# Altium footprint library Transistor.PcbLib: 7 footprints
Each footprint in its own frame and in the unit in brackets; x right, y up, seen from the top. Pads: shape width x height; smd on the part's side, far side on the other; paste and mask are expansions set on the pad; w line width, h text height; cw(c..) or ccw(c..) is an arc to the next point about the centre after c.
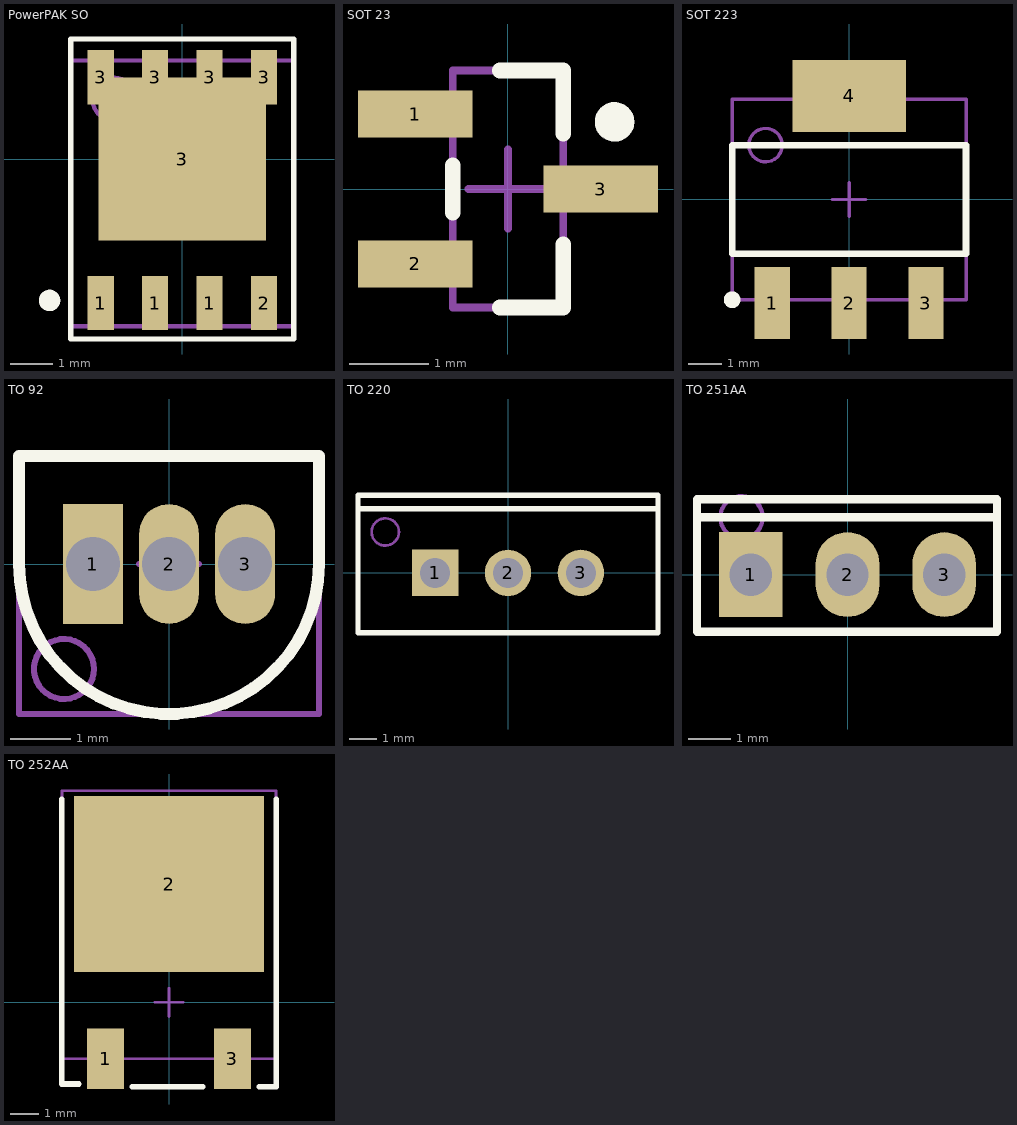
[diagram p0: the footprints below, top view; thin cyan lines are the x and y axes]

## PowerPAK SO [mm]
pads (9):
  rect 0.61x1.27 smd: 1(-1.905,-3.36) 1(-0.635,-3.36) 1(0.635,-3.36) 2(1.905,-3.36) 3(-1.905,1.905) 3(-0.635,1.905) 3(0.635,1.905) 3(1.905,1.905)
  rect 3.91x3.81 smd: 3(0,0)
Top Overlay:
  circle w0.25: c-3.1,-3.3 r0.125
  lines w0.127: -2.6,-4.2 -2.6,2.8 2.6,2.8 2.6,-4.2 -2.6,-4.2
Mechanical 13:
  circle w0.1: c-1.6,1.4 r0.5
  lines w0.1: -2.6,-3.9 2.6,-3.9 2.6,2.3 -2.6,2.3 -2.6,-3.9
Mechanical 15:
  lines w0.1: -0.5,0 0.5,0 ; 0,-0.5 0,0.5
3D body "Part1.stp": height 1.12, standoff 0, extent -2.575,-3.875 2.575,2.275

## SOT 23 [mm] "SOT23, 3-Leads, Body 2.9x1.3mm, Pitch 0.95mm, Lead Span 2.3mm - Reverse Pinning, IPC Low Density"
height 1.1
pads (3):
  rect 1.45x0.6 smd: 1(-1.175,0.95) 2(-1.175,-0.95) 3(1.175,0)
Top Overlay:
  circle w0.25: c1.35,0.85 r0.125
  lines w0.2: -0.7,-0.3 -0.7,0.3 ; -0.1,-1.5 0.7,-1.5 0.7,-0.7 ; -0.1,1.5 0.7,1.5 0.7,0.7
Mechanical 13:
  lines w0.1: -0.7,-1.5 -0.7,1.5 0.7,1.5 0.7,-1.5 -0.7,-1.5
Mechanical 15:
  lines w0.1: -0.5,0 0.5,0 ; 0,-0.5 0,0.5
3D body "SOT-23.stp": height 1.02, standoff 0.01, extent -1.365,-1.46 1.365,1.46

## SOT 223 [mm] "SOT-223/SC-73; 4 Leads; Body 6.7 x 7.3 mm, inc. leads (LxW max)"
height 1.7
pads (4):
  rect 1.05x2.15 smd: 1(-2.3,-3.1) 2(0,-3.1) 3(2.3,-3.1)
  rect 3.4x2.15 smd: 4(0,3.1)
Top Overlay:
  circle w0.25: c-3.5,-3 r0.125
  lines w0.2: -3.5,-1.625 3.5,-1.625 3.5,1.625 -3.5,1.625 -3.5,-1.625
Mechanical 13:
  circle w0.1: c-2.5,1.625 r0.5
  lines w0.1: -3.5,-3 -3.5,3 3.5,3 3.5,-3 -3.5,-3
Mechanical 15:
  lines w0.1: -0.5,0 0.5,0 ; 0,-0.5 0,0.5
3D body "SOT-223.stp": height 1.81, standoff 0.01, extent -3.35,-3.65 3.35,3.65

## TO 92 [mm] "TO, Flat Index; 3 In-Line, Axial Leads; Body Dia. 4.7mm; Leads 0.56 x 0.51 mm (max)"
height 4.95
pads (3):
  rect 1x2 hole 0.9: 1(-1.27,0)
  oval 1x2 hole 0.9: 2(0,0) 3(1.27,0)
Top Overlay:
  lines w0.2: -2.5,0 ccw(c0,0) 2.5,0 2.5,1.8 -2.5,1.8 -2.5,0
Mechanical 13:
  circle w0.1: c-1.75,-1.75 r0.5
  lines w0.1: -2.5,-2.5 -2.5,1.8 2.5,1.8 2.5,-2.5 -2.5,-2.5
Mechanical 15:
  lines w0.1: -0.5,0 0.5,0 ; 0,-0.5 0,0.5
3D body "TO-92.stp": height 5.32, standoff -13.42, extent -2.355,-2 2.355,1.598

## TO 220 [mm] "TO, Thru-Hole, Vertical, Heatsink Mounted; 3 In-Line Leads; Pitch 2.67 mm"
height 22.9
pads (3):
  rect 1.7x1.7 hole 1.1: 1(-2.67,0)
  round 1.7 hole 1.1: 2(0,0) 3(2.67,0)
Top Overlay:
  lines w0.2: -5.5,2.35 5.5,2.35 ; -5.5,-2.2 -5.5,2.85 5.5,2.85 5.5,-2.2 -5.5,-2.2
Mechanical 13:
  circle w0.1: c-4.5,1.5 r0.5
  lines w0.1: -5.5,-2.2 5.5,-2.2 5.5,2.85 -5.5,2.85 -5.5,-2.2
Mechanical 15:
  lines w0.1: -0.5,0 0.5,0 ; 0,-0.5 0,0.5
3D body "TO-220.stp": height 9.07, standoff -21.18, extent -5.26,-2 5.26,2.65

## TO 251AA [mm] "TO, Thru-Hole, Vertical, 3 In-Line Leads; Pitch 2.28 mm"
height 22.9
pads (3):
  rect 1.5x2 hole 1: 1(-2.28,0)
  oval 1.5x2 hole 1: 2(0,0) 3(2.28,0)
Top Overlay:
  lines w0.2: -3.55,1.35 3.525,1.35 ; -3.55,1.35 -3.55,-1.35 3.525,-1.35 3.525,1.35 ; -3.55,1.35 -3.55,1.775 3.525,1.775 3.525,1.35
Mechanical 13:
  circle w0.1: c-2.5,1.35 r0.5
  lines w0.1: -3.5,-1.35 3.5,-1.35 3.5,1.75 -3.5,1.75 -3.5,-1.35
Mechanical 15:
  lines w0.1: -0.5,0 0.5,0 ; 0,-0.5 0,0.5
3D body "TO-251AA_master.stp": height 8.44, standoff -6.53, extent -3.365,-1.19 3.365,1.2

## TO 252AA [mm] "Surface moun; Pitch 2.28 mm"
height 2
pads (3):
  rect 1.3x2.15 smd: 1(-2.25,-2) 3(2.25,-2)
  rect 6.74x6.23 smd: 2(0,4.195)
Top Overlay:
  lines w0.2: -3.8,7.2 -3.8,-2.9 -3.2,-2.9 ; -1.3,-3 1.2,-3 ; 3.2,-3 3.8,-3 3.8,7.2
Mechanical 13:
  circle w0.1: c-2.5,6 r0.5
  lines w0.1: -3.8,-2 3.8,-2 3.8,7.5 -3.8,7.5 -3.8,-2
Mechanical 15:
  lines w0.1: -0.5,0 0.5,0 ; 0,-0.5 0,0.5
3D body "TO-251AA_master.stp": height 2.53, standoff 0.01, extent -3.366,-2.77 3.365,6.94